# Altium footprint library 索腾保密柜ZCM_V1_HJ.PcbLib: 58 footprints (part 3 of 4)
Each footprint in its own frame and in the unit in brackets; x right, y up, seen from the top. Pads: shape width x height; smd on the part's side, far side on the other; paste and mask are expansions set on the pad; w line width, h text height; cw(c..) or ccw(c..) is an arc to the next point about the centre after c.
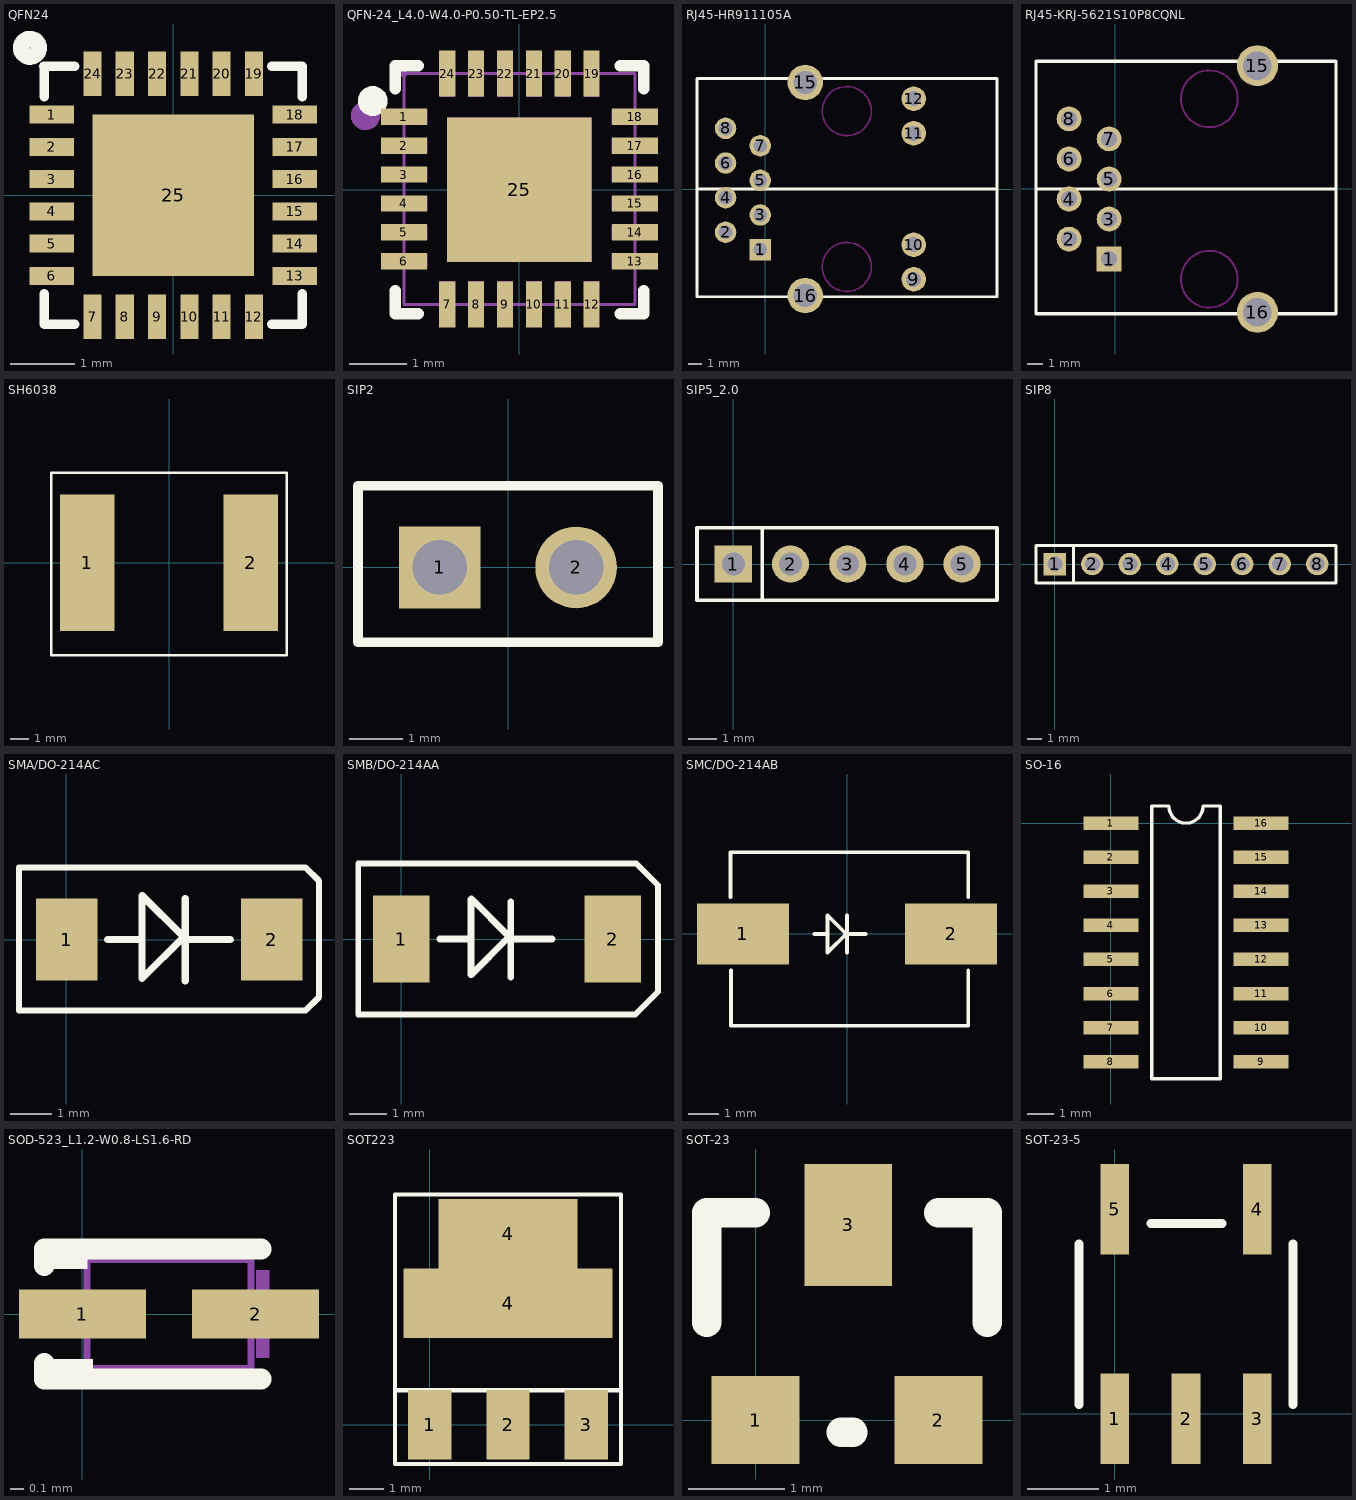
[diagram p2: the footprints below, top view; thin cyan lines are the x and y axes]

## QFN24 [mm]
height 1.5
pads (25):
  rect 0.69x0.28 smd: 1(-1.883,1.25) 2(-1.883,0.75) 3(-1.883,0.25) 4(-1.883,-0.25) 5(-1.883,-0.75) 6(-1.883,-1.25) 13(1.882,-1.25) 14(1.882,-0.75) 15(1.882,-0.25) 16(1.882,0.25) 17(1.882,0.75) 18(1.882,1.25)
  rect 0.28x0.69 smd: 7(-1.25,-1.882) 8(-0.75,-1.882) 9(-0.25,-1.882) 10(0.25,-1.882) 11(0.75,-1.882) 12(1.25,-1.882) 19(1.25,1.882) 20(0.75,1.882) 21(0.25,1.882) 22(-0.25,1.882) 23(-0.75,1.882) 24(-1.25,1.882)
  rect 2.5x2.5 smd: 25(0,0)
Top Overlay:
  circle w0.254: c-2.22,2.286 r0.137
  lines w0.15: -2.007,2 -1.53,2 ; -2,-1.53 -2,-2 -1.53,-2 ; -2,1.53 -2,2 ; 1.53,-2 2,-2 2,-1.53 ; 1.53,2 2,2 2,1.53

## QFN-24_L4.0-W4.0-P0.50-TL-EP2.5 [mm]
pads (25):
  rect 0.8x0.28 smd paste-100 mask+0.051: 1(-2,1.262) 2(-2,0.763) 3(-2,0.262) 4(-2,-0.237) 5(-2,-0.738) 6(-2,-1.237) 13(2,-1.237) 14(2,-0.738) 15(2,-0.237) 16(2,0.262) 17(2,0.763) 18(2,1.263)
  rect 0.28x0.8 smd paste-100 mask+0.051: 7(-1.25,-1.988) 8(-0.75,-1.988) 9(-0.25,-1.988) 10(0.25,-1.988) 11(0.75,-1.988) 12(1.25,-1.988) 19(1.25,2.012) 20(0.75,2.012) 21(0.25,2.012) 22(-0.25,2.012) 23(-0.75,2.012) 24(-1.25,2.012)
  rect 2.5x2.5 smd paste-100 mask+0.051: 25(0,0)
Top Overlay:
  region: -2.54,1.283 -2.489,1.283 -2.396,1.322 -2.325,1.393 -2.287,1.487 -2.287,1.588 -2.326,1.681 -2.397,1.752 -2.491,1.791 -2.541,1.791 -2.592,1.791 -2.685,1.752 -2.756,1.681 -2.795,1.588 -2.795,1.487 -2.757,1.393 -2.686,1.322 -2.593,1.283 -2.542,1.283
  lines w0.2: -2.15,-1.75 -2.15,-2.15 -1.75,-2.15 ; -2.15,1.75 -2.15,2.15 -1.75,2.15 ; 1.75,-2.15 2.15,-2.15 2.15,-1.75 ; 1.75,2.15 2.15,2.15 2.15,1.75
Top Paste:
  region: -1,1 1,1 1,-1 -1,-1
  region: -1.6,1.122 -1.6,1.402 -2.4,1.402 -2.4,1.122
  region: -1.6,0.623 -1.6,0.903 -2.4,0.903 -2.4,0.623
  region: -1.6,0.122 -1.6,0.402 -2.4,0.402 -2.4,0.122
  region: -1.6,-0.377 -1.6,-0.097 -2.4,-0.097 -2.4,-0.377
  region: -1.6,-0.878 -1.6,-0.598 -2.4,-0.598 -2.4,-0.878
  region: -1.6,-1.377 -1.6,-1.097 -2.4,-1.097 -2.4,-1.377
  region: 2.4,-1.377 2.4,-1.097 1.6,-1.097 1.6,-1.377
  region: 2.4,-0.877 2.4,-0.597 1.6,-0.597 1.6,-0.877
  region: 2.4,-0.377 2.4,-0.097 1.6,-0.097 1.6,-0.377
  region: 2.4,0.123 2.4,0.403 1.6,0.403 1.6,0.123
  region: 2.4,0.623 2.4,0.903 1.6,0.903 1.6,0.623
  region: 2.4,1.123 2.4,1.403 1.6,1.403 1.6,1.123
  region: 1.39,-1.588 1.11,-1.588 1.11,-2.388 1.39,-2.388
  region: 0.89,-1.588 0.61,-1.588 0.61,-2.388 0.89,-2.388
  region: 0.39,-1.588 0.11,-1.588 0.11,-2.388 0.39,-2.388
  region: -0.11,-1.588 -0.39,-1.588 -0.39,-2.388 -0.11,-2.388
  region: -0.61,-1.588 -0.89,-1.588 -0.89,-2.388 -0.61,-2.388
  region: -1.11,-1.588 -1.39,-1.588 -1.39,-2.388 -1.11,-2.388
  region: 1.39,2.412 1.11,2.412 1.11,1.612 1.39,1.612
  region: 0.89,2.412 0.61,2.412 0.61,1.612 0.89,1.612
  region: 0.39,2.412 0.11,2.412 0.11,1.612 0.39,1.612
  region: -0.11,2.412 -0.39,2.412 -0.39,1.612 -0.11,1.612
  region: -0.61,2.412 -0.89,2.412 -0.89,1.612 -0.61,1.612
  region: -1.11,2.412 -1.39,2.412 -1.39,1.612 -1.11,1.612
Mechanical 6:
  circle w0.25: c-2.667,1.282 r0.125
Mechanical 15:
  region: -1.94,2.012 -1.94,2.037 -1.975,2.072 -2.025,2.072 -2.06,2.037 -2.06,2.012 -2.06,1.988 -2.025,1.952 -1.975,1.952 -1.94,1.988
  region: -1.375,1.613 -1.375,2.013 -1.125,2.013 -1.125,1.613
  region: -0.875,1.613 -0.875,2.013 -0.625,2.013 -0.625,1.613
  region: -0.375,1.613 -0.375,2.013 -0.125,2.013 -0.125,1.613
  region: 0.125,1.613 0.125,2.013 0.375,2.013 0.375,1.613
  region: 0.625,1.613 0.625,2.013 0.875,2.013 0.875,1.613
  region: 1.125,1.613 1.125,2.013 1.375,2.013 1.375,1.613
  region: 1.6,0.137 1.6,0.387 2,0.387 2,0.137
  region: 1.6,-0.362 1.6,-0.112 2,-0.112 2,-0.362
  region: 1.6,-0.863 1.6,-0.613 2,-0.613 2,-0.863
  region: 1.6,-1.362 1.6,-1.112 2,-1.112 2,-1.362
  region: 1.125,-1.987 1.125,-1.587 1.375,-1.587 1.375,-1.987
  region: 0.625,-1.987 0.625,-1.587 0.875,-1.587 0.875,-1.987
  region: 0.125,-1.987 0.125,-1.587 0.375,-1.587 0.375,-1.987
  region: -0.375,-1.987 -0.375,-1.587 -0.125,-1.587 -0.125,-1.987
  region: -0.875,-1.987 -0.875,-1.587 -0.625,-1.587 -0.625,-1.987
  region: -1.375,-1.987 -1.375,-1.587 -1.125,-1.587 -1.125,-1.987
  region: -2,-1.362 -2,-1.112 -1.6,-1.112 -1.6,-1.362
  region: -2,-0.863 -2,-0.613 -1.6,-0.613 -1.6,-0.863
  region: -2,-0.362 -2,-0.112 -1.6,-0.112 -1.6,-0.362
  region: -2,0.137 -2,0.387 -1.6,0.387 -1.6,0.137
  region: -2,0.638 -2,0.888 -1.6,0.888 -1.6,0.638
  region: -2,1.137 -2,1.387 -1.6,1.387 -1.6,1.137
  region: 1.6,1.138 1.6,1.388 2,1.388 2,1.138
  region: 1.6,0.638 1.6,0.888 2,0.888 2,0.638
  region: -1.25,1.25 1.25,1.25 1.25,-1.25 -1.25,-1.25
  lines w0.051: -2,-1.987 2,-1.987 2,2.013 -2,2.013 -2,-1.987

## RJ45-HR911105A [mm] "HR911105A"
height 1.5
pads (14):
  rect 1.575x1.575 hole 1.016: 1(-0.38,-4.445)
  round 1.575 hole 1.016: 2(-2.92,-3.175) 3(-0.38,-1.905) 4(-2.92,-0.635) 5(-0.38,0.635) 6(-2.92,1.905) 7(-0.38,3.175) 8(-2.92,4.445)
  round 1.8 hole 1.1: 9(10.87,-6.625) 10(10.87,-4.085) 11(10.87,4.085) 12(10.87,6.625)
  round 2.6 hole 1.7: 15(2.92,7.815) 16(2.92,-7.815)
Top Overlay:
  lines w0.2: -5.013,0 16.87,0
  lines w0.203: -5.017,-7.91 -5.011,-7.904 ; -5.017,8.092 -5.013,8.096 ; 16.977,-7.904 2.823,-7.904 -5.011,-7.904 ; 16.979,8.096 2.823,8.096 -5.013,8.096 ; 16.983,-7.91 16.983,8.092 ; -5.013,8.096 -5.013,-7.902 -5.011,-7.904
Keep-Out Layer:
  circle w0.127: c5.97,5.715 r1.798
  circle w0.127: c5.97,-5.715 r1.798

## RJ45-KRJ-5621S10P8CQNL [mm] "HR911105A"
height 13.3
pads (10):
  rect 1.575x1.575 hole 1.016: 1(-0.38,-4.445)
  round 1.575 hole 1.016: 2(-2.92,-3.175) 3(-0.38,-1.905) 4(-2.92,-0.635) 5(-0.38,0.635) 6(-2.92,1.905) 7(-0.38,3.175) 8(-2.92,4.445)
  round 2.6 hole 1.8: 15(9.02,7.815) 16(9.02,-7.815)
Top Overlay:
  lines w0.2: -5.013,0 14,0
  lines w0.203: -5.017,-7.91 -5.011,-7.904 ; -5.017,8.092 -5.013,8.096 ; 14,-7.91 14,8.092 ; 14,-7.904 2.823,-7.904 -5.011,-7.904 ; 14,8.096 2.823,8.096 -5.013,8.096 ; -5.013,8.096 -5.013,-7.902 -5.011,-7.904
Keep-Out Layer:
  circle w0.127: c5.97,-5.715 r1.798
  circle w0.127: c5.97,5.715 r1.798

## SH6038 [mm]
height 4
pads (2):
  rect 3x7.5 smd: 1(-4.5,0) 2(4.5,0)
Top Overlay:
  lines w0.127: -6.477,-5.08 6.477,-5.08 6.477,4.953 -6.477,4.953 -6.477,-5.08

## SIP2 [mil]
pads (2):
  rect 60x60 hole 40: 1(-50,0)
  round 60 hole 40: 2(50,0)
Top Overlay:
  lines w7: -110,-55 -110,60 -80,60 110,60 110,-55 -110,-55

## SIP5_2.0 [mm]
pads (5):
  rect 1.3x1.3 hole 0.8: 1(0,0)
  round 1.3 hole 0.8: 2(2,0) 3(4,0) 4(6,0) 5(8,0)
Top Overlay:
  lines w0.127: 1.016,-1.27 1.016,1.27 ; -1.27,-1.27 -1.27,1.27 9.22,1.27 9.22,-1.27 -1.27,-1.27

## SIP8 [mil]
height 59.06
pads (8):
  rect 60x60 hole 40: 1(0,0)
  round 60 hole 40: 2(100,0) 3(200,0) 4(300,0) 5(400,0) 6(500,0) 7(600,0) 8(700,0)
Top Overlay:
  lines w8: 50,-50 50,50 ; -50,-50 750,-50 750,50 -50,50 -50,-50

## SMA/DO-214AC [mm]
height 2.5
pads (2):
  rect 1.5x2 smd: 1(0.02,0) 2(5,0)
Top Overlay:
  lines w0.15: -1.143,-1.727 -1.143,1.753 5.817,1.753 6.147,1.422 6.147,-1.397 5.817,-1.727 -1.143,-1.727
  lines w0.178: 1.845,1.051 1.845,-0.949 2.845,0.051 ; 1.854,1.067 2.854,0.067 ; 2.896,-1.009 2.896,0.991
  lines w0.18: 1.016,0 1.799,0 ; 2.9,0 3.988,0
3D body "User Library-cap_1210.STEP": height 2.5, standoff 0, extent 1259.098,1151.814 1261.598,1155.014
3D body "User Library-cap_1210.STEP": height 2.5, standoff 0, extent 1259.098,1151.814 1261.598,1155.014
3D body "User Library-cap_1210.STEP": height 2.5, standoff 0, extent 1259.098,1151.814 1261.598,1155.014
3D body "User Library-cap_1210.STEP": height 2.5, standoff 0, extent 1259.098,1151.814 1261.598,1155.014
3D body "User Library-cap_1210.STEP": height 2.5, standoff 0, extent 1259.098,1151.814 1261.598,1155.014
3D body "User Library-cap_1210.STEP": height 2.5, standoff 0, extent 1259.098,1151.814 1261.598,1155.014
3D body "User Library-cap_1210.STEP": height 2.5, standoff 0, extent 1259.098,1151.814 1261.598,1155.014
3D body "User Library-CaseA_3216-18.STEP": height 0.8, standoff -0.8, extent 1263.701,1268.374 1265.301,1271.575

## SMB/DO-214AA [mm]
height 2.5
pads (2):
  rect 1.5x2.3 smd: 1(0,0) 2(5.6,0)
Top Overlay:
  lines w0.15: -1.143,-2 5.817,-2 6.197,-2 6.8,-1.397 6.8,1.422 6.222,2 5.817,2 -1.143,2 -1.143,-2
  lines w0.178: 1.845,1.051 1.845,-0.949 2.845,0.051 ; 1.854,1.067 2.854,0.067 ; 2.896,-1.009 2.896,0.991
  lines w0.18: 1.016,0 1.799,0 ; 2.9,0 3.988,0

## SMC/DO-214AB [mm]
height 2.2
pads (2):
  rect 3x2 smd: 1(-3.4,0) 2(3.4,0)
Top Overlay:
  lines w0.127: -3.81,1.2 -3.81,2.667 3.962,2.667 3.962,1.2 ; -3.785,-1.2 -3.785,-2.997 3.962,-2.997 3.962,-1.2 ; -1.067,0 -0.711,0 ; 0,-0.61 0,0.61 ; 0.61,0 -0.025,0 ; -0.025,0 -0.635,-0.61 -0.635,0.61 -0.025,0

## SO-16 [mil]
height 118.11
pads (16):
  rect 80x19.68 smd: 1(0,0) 2(0,-50) 3(0,-100) 4(0,-150) 5(0,-200) 6(0,-250) 7(0,-300) 8(0,-350) 9(220,-350) 10(220,-300) 11(220,-250) 12(220,-200) 13(220,-150) 14(220,-100) 15(220,-50) 16(220,0)
Top Overlay:
  lines w5: 60,-375 160,-375 160,25 135,25 cw(c110,25) 85,25 60,25 60,-375

## SOD-523_L1.2-W0.8-LS1.6-RD [mm]
pads (2):
  rect 0.93x0.36 smd: 1(0,0) 2(1.27,0)
Top Overlay:
  region: 0.075,-0.552 0.075,-0.332 -0.229,-0.332 -0.229,-0.552
  region: 0.035,0.552 0.035,0.332 -0.27,0.332 -0.27,0.552
  lines w0.152: -0.279,-0.363 -0.279,-0.476 -0.041,-0.476 1.311,-0.476 ; -0.279,0.356 -0.279,0.476 -0.041,0.476 1.311,0.476
Mechanical 6:
  region: 1.371,0.32 1.371,-0.32 1.275,-0.32 1.275,0.32
  region: 1.515,0.048 1.515,-0.048 1.131,-0.048 1.131,0.048
  region: -0.252,0.055 -0.252,-0.041 0.132,-0.041 0.132,0.055
Mechanical 15:
  region: 1.435,-0.15 1.435,0.15 0.835,0.15 0.835,-0.15
  region: -0.165,-0.15 -0.165,0.15 0.435,0.15 0.435,-0.15
  region: -0.105,-0.4 -0.105,-0.376 -0.14,-0.341 -0.189,-0.341 -0.224,-0.375 -0.225,-0.4 -0.224,-0.424 -0.19,-0.459 -0.141,-0.459 -0.106,-0.424
  lines w0.051: 0.035,-0.4 1.235,-0.4 1.235,0.4 0.035,0.4 0.035,-0.4

## SOT223 [mil]
height 59.06
pads (5):
  rect 50x80 smd: 1(0,0) 2(90,0) 3(180,0)
  rect 240x80 smd: 4(90,140)
  rect 160x80 smd: 4(90,220)
Top Overlay:
  lines w5: -40,40 220,40 ; -40,-45 -40,265 220,265 220,-45 -40,-45

## SOT-23 [mil]
height 98.43
pads (3):
  rect 36x36 smd: 1(0,0) 2(75,0)
  rect 36x50 smd: 3(38,80)
Top Overlay:
  lines w12: -20,40 -20,85 0,85 ; 35,-5 40,-5 ; 75,85 95,85 95,40

## SOT-23-5 [mm]
height 1.5
pads (5):
  rect 0.4x1.27 smd: 1(0,-0.073) 2(1,-0.073) 3(2,-0.073) 4(2,2.867) 5(0,2.867)
Top Overlay:
  lines w0.127: -0.5,0.127 -0.5,2.377 ; 0.508,2.667 1.508,2.667 ; 2.5,0.127 2.5,2.377